# Altium footprint library Connector_DIN.PcbLib: 94 footprints (part 3 of 6)
Each footprint in its own frame and in the unit in brackets; x right, y up, seen from the top. Pads: shape width x height; smd on the part's side, far side on the other; paste and mask are expansions set on the pad; w line width, h text height; cw(c..) or ccw(c..) is an arc to the next point about the centre after c.
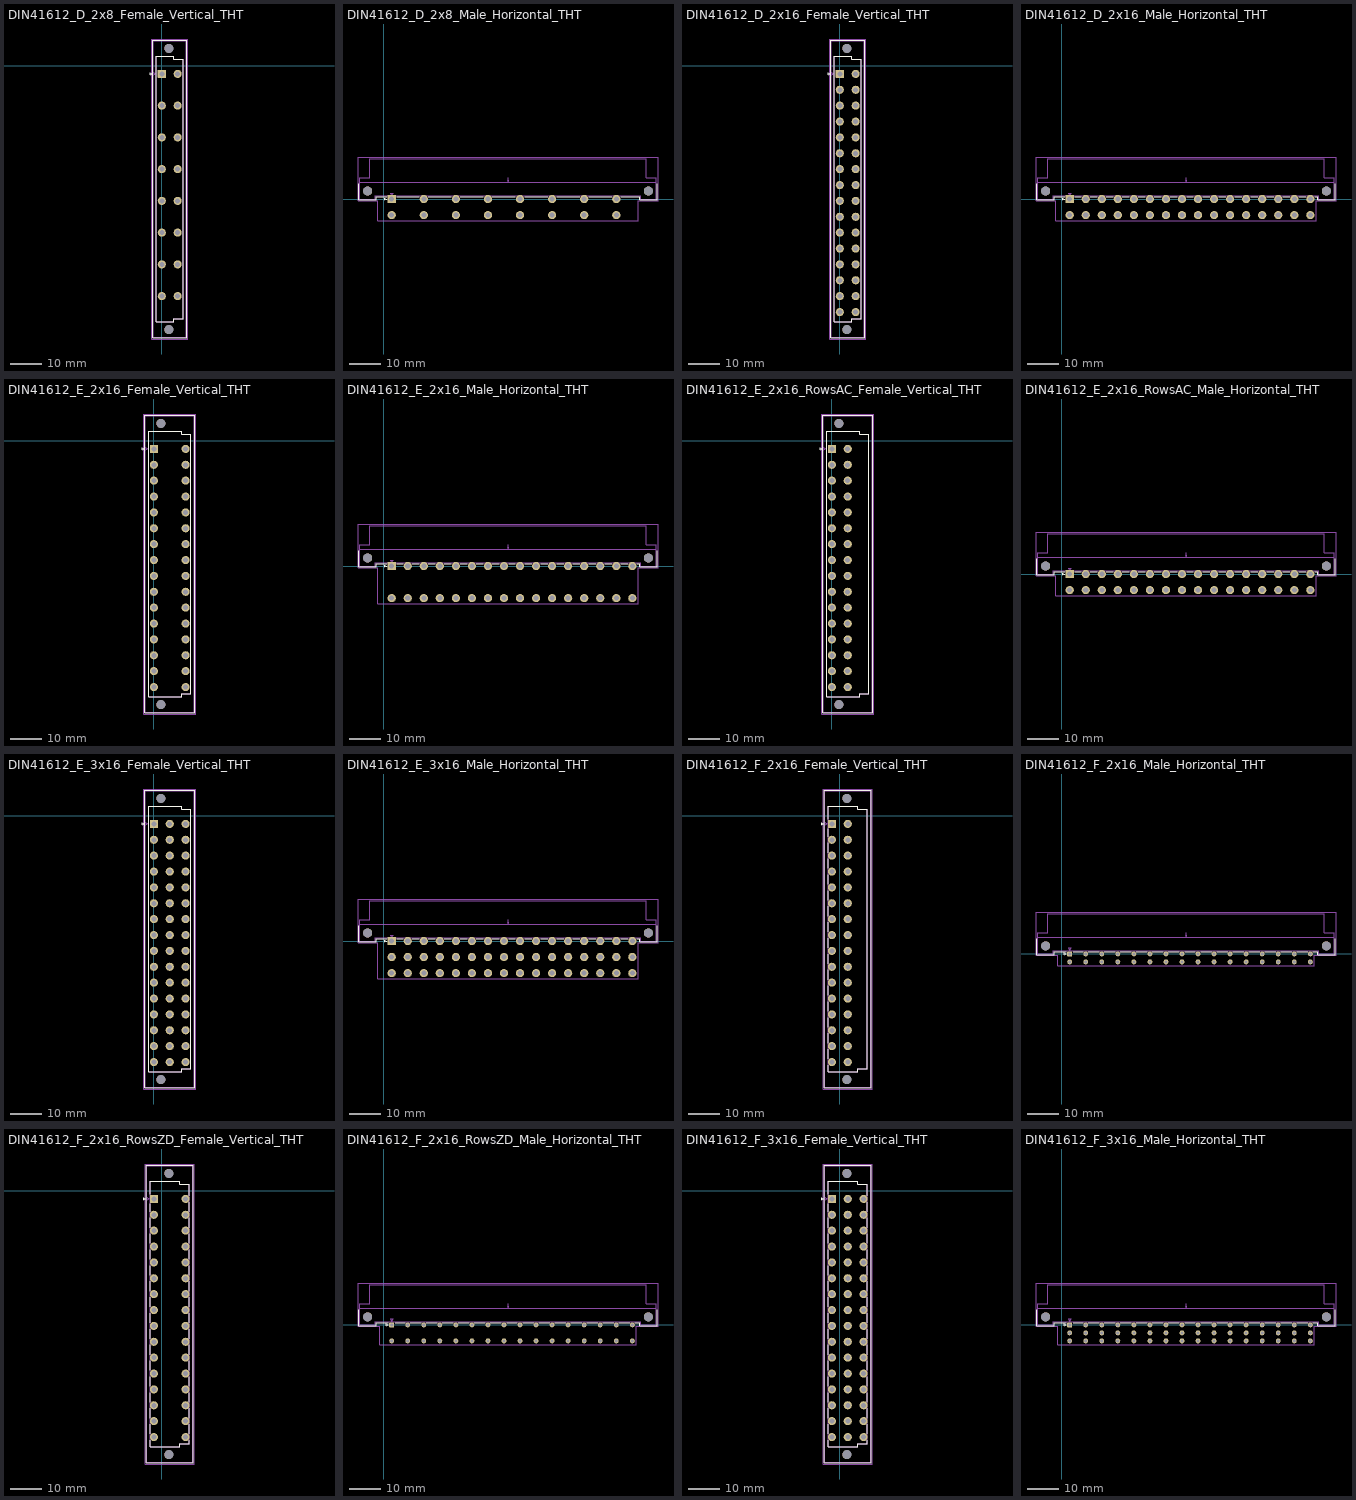
[diagram p2: the footprints below, top view; thin cyan lines are the x and y axes]

## DIN41612_D_2x8_Female_Vertical_THT [mm]
pads (18):
  rrect10% 2.6x2.6 hole 1.6: a2(0,-2.54)
  round 2.6 hole 1.6: a6(0,-12.7) a10(0,-22.86) a14(0,-33.02) a18(0,-43.18) a22(0,-53.34) a26(0,-63.5) a30(0,-73.66) c2(5.08,-2.54) c6(5.08,-12.7) c10(5.08,-22.86) c14(5.08,-33.02) c18(5.08,-43.18) c22(5.08,-53.34) c26(5.08,-63.5) c30(5.08,-73.66)
  round 2.85 hole 2.85: Un1(2.24,5.63) Un2(2.24,-84.37)
F.SilkS:
  lines w0.254: -3.74,-2.84 -3.74,-2.24 -3.06,-2.54 -3.74,-2.84 ; -2.87,-86.98 -2.87,8.24 7.95,8.24 7.95,-86.98 -2.87,-86.98 ; -1.71,-81.87 -1.71,3.13 3.79,3.13 3.79,2.13 6.79,2.13 6.79,-80.87 3.79,-80.87 3.79,-81.87 -1.71,-81.87
Top Assembly:
  lines w0.254: -2.76,-3.04 -2.06,-2.54 -2.76,-2.04 ; -2.76,-86.87 -2.76,8.13 7.84,8.13 7.84,-86.87 -2.76,-86.87 ; -1.71,-81.87 -1.71,3.13 3.79,3.13 3.79,2.13 6.79,2.13 6.79,-80.87 3.79,-80.87 3.79,-81.87 -1.71,-81.87
  text "'.Designator'" at -1.507,-40.21 h1
Top Courtyard:
  lines w0.254: -3.26,-87.37 -3.26,8.63 8.34,8.63 8.34,-87.37 -3.26,-87.37
Top Designator:
  text ".Designator" at -5.318,-39.878 h1.52

## DIN41612_D_2x8_Male_Horizontal_THT [mm]
pads (18):
  rrect10% 2.6x2.6 hole 1.6: a2(2.54,0)
  round 2.6 hole 1.6: a6(12.7,0) a10(22.86,0) a14(33.02,0) a18(43.18,0) a22(53.34,0) a26(63.5,0) a30(73.66,0) c2(2.54,-5.08) c6(12.7,-5.08) c10(22.86,-5.08) c14(33.02,-5.08) c18(43.18,-5.08) c22(53.34,-5.08) c26(63.5,-5.08) c30(73.66,-5.08)
  round 2.85 hole 2.85: Un1(-5.08,2.54) Un2(83.82,2.54)
F.SilkS:
  lines w0.254: -7.89,4.8 -7.89,-0.26 -2.37,-0.26 -2.37,0.74 0.92,0.74 ; 4.16,0.74 11.259,0.74 ; 14.141,0.74 21.419,0.74 ; 24.301,0.74 31.579,0.74 ; 34.461,0.74 41.739,0.74 ; 44.621,0.74 51.899,0.74 ; 54.781,0.74 62.059,0.74 ; 64.941,0.74 72.219,0.74 ; 75.101,0.74 81.11,0.74 81.11,-0.26 86.63,-0.26 86.63,4.8 ; 0.32,-0.3 0.92,0 0.32,0.3 0.32,-0.3
Top Assembly:
  lines w0.254: -7.63,0 -2.63,0 -2.63,1 81.37,1 81.37,0 86.37,0 86.37,6.74 83.12,6.74 83.12,12.74 -4.38,12.74 -4.38,6.74 -7.63,6.74 -7.63,0 ; 2.04,1.9 2.54,1.2 3.04,1.9 2.04,1.9
  text "'.Designator'" at 35.323,1.7 h1
Top Courtyard:
  lines w0.254: -8.13,-0.5 -1.8,-0.5 -1.8,-6.88 80.54,-6.88 80.54,-0.5 86.87,-0.5 86.87,13.23 -8.13,13.23 -8.13,-0.5
Top Designator:
  text ".Designator" at 31.752,2.667 h1.52
Dwgs.User:
  lines w0.254: -7.63,5.3 86.37,5.3
Cmts.User:
  lines w0.254: 39.17,5.9 39.37,5.4 ; 39.37,6.7 39.37,5.4 ; 39.57,5.9 39.37,5.4
  text "Board edge" at 36.577,6.733 h0.7

## DIN41612_D_2x16_Female_Vertical_THT [mm]
pads (34):
  rrect10% 2.6x2.6 hole 1.6: a2(0,-2.54)
  round 2.6 hole 1.6: a4(0,-7.62) a6(0,-12.7) a8(0,-17.78) a10(0,-22.86) a12(0,-27.94) a14(0,-33.02) a16(0,-38.1) a18(0,-43.18) a20(0,-48.26) a22(0,-53.34) a24(0,-58.42) a26(0,-63.5) a28(0,-68.58) a30(0,-73.66) a32(0,-78.74) c2(5.08,-2.54) c4(5.08,-7.62) c6(5.08,-12.7) c8(5.08,-17.78) c10(5.08,-22.86) c12(5.08,-27.94) c14(5.08,-33.02) c16(5.08,-38.1) c18(5.08,-43.18) c20(5.08,-48.26) c22(5.08,-53.34) c24(5.08,-58.42) c26(5.08,-63.5) c28(5.08,-68.58) c30(5.08,-73.66) c32(5.08,-78.74)
  round 2.85 hole 2.85: Un1(2.24,5.63) Un2(2.24,-84.37)
F.SilkS:
  lines w0.254: -3.74,-2.84 -3.06,-2.54 -3.74,-2.24 -3.74,-2.84 ; -2.87,-86.98 7.95,-86.98 7.95,8.24 -2.87,8.24 -2.87,-86.98 ; -1.71,-81.87 3.79,-81.87 3.79,-80.87 6.79,-80.87 6.79,2.13 3.79,2.13 3.79,3.13 -1.71,3.13 -1.71,-81.87
Top Assembly:
  lines w0.254: -2.76,-3.04 -2.06,-2.54 -2.76,-2.04 ; -2.76,-86.87 7.84,-86.87 7.84,8.13 -2.76,8.13 -2.76,-86.87 ; -1.71,-81.87 3.79,-81.87 3.79,-80.87 6.79,-80.87 6.79,2.13 3.79,2.13 3.79,3.13 -1.71,3.13 -1.71,-81.87
  text "'.Designator'" at -1.507,-40.21 h1
Top Courtyard:
  lines w0.254: -3.26,-87.37 8.34,-87.37 8.34,8.63 -3.26,8.63 -3.26,-87.37
Top Designator:
  text ".Designator" at -5.318,-39.878 h1.52

## DIN41612_D_2x16_Male_Horizontal_THT [mm]
pads (34):
  rrect10% 2.6x2.6 hole 1.6: a2(2.54,0)
  round 2.6 hole 1.6: a4(7.62,0) a6(12.7,0) a8(17.78,0) a10(22.86,0) a12(27.94,0) a14(33.02,0) a16(38.1,0) a18(43.18,0) a20(48.26,0) a22(53.34,0) a24(58.42,0) a26(63.5,0) a28(68.58,0) a30(73.66,0) a32(78.74,0) c2(2.54,-5.08) c4(7.62,-5.08) c6(12.7,-5.08) c8(17.78,-5.08) c10(22.86,-5.08) c12(27.94,-5.08) c14(33.02,-5.08) c16(38.1,-5.08) c18(43.18,-5.08) c20(48.26,-5.08) c22(53.34,-5.08) c24(58.42,-5.08) c26(63.5,-5.08) c28(68.58,-5.08) c30(73.66,-5.08) c32(78.74,-5.08)
  round 2.85 hole 2.85: Un1(-5.08,2.54) Un2(83.82,2.54)
F.SilkS:
  lines w0.254: -7.89,4.8 -7.89,-0.26 -2.37,-0.26 -2.37,0.74 0.92,0.74 ; 4.16,0.74 6.179,0.74 ; 9.061,0.74 11.259,0.74 ; 14.141,0.74 16.339,0.74 ; 19.221,0.74 21.419,0.74 ; 24.301,0.74 26.499,0.74 ; 29.381,0.74 31.579,0.74 ; 34.461,0.74 36.659,0.74 ; 39.541,0.74 41.739,0.74 ; 44.621,0.74 46.819,0.74 ; 49.701,0.74 51.899,0.74 ; 54.781,0.74 56.979,0.74 ; 59.861,0.74 62.059,0.74 ; 64.941,0.74 67.139,0.74 ; 70.021,0.74 72.219,0.74 ; 75.101,0.74 77.299,0.74 ; 80.181,0.74 81.11,0.74 81.11,-0.26 86.63,-0.26 86.63,4.8 ; 0.32,-0.3 0.92,0 0.32,0.3 0.32,-0.3
Top Assembly:
  lines w0.254: -7.63,0 -2.63,0 -2.63,1 81.37,1 81.37,0 86.37,0 86.37,6.74 83.12,6.74 83.12,12.74 -4.38,12.74 -4.38,6.74 -7.63,6.74 -7.63,0 ; 2.04,1.9 2.54,1.2 3.04,1.9 2.04,1.9
  text "'.Designator'" at 35.323,1.7 h1
Top Courtyard:
  lines w0.254: -8.13,-0.5 -1.8,-0.5 -1.8,-6.88 80.54,-6.88 80.54,-0.5 86.87,-0.5 86.87,13.23 -8.13,13.23 -8.13,-0.5
Top Designator:
  text ".Designator" at 31.752,2.667 h1.52
Dwgs.User:
  lines w0.254: -7.63,5.3 86.37,5.3
Cmts.User:
  lines w0.254: 39.17,5.9 39.37,5.4 ; 39.37,6.7 39.37,5.4 ; 39.57,5.9 39.37,5.4
  text "Board edge" at 36.577,6.733 h0.7

## DIN41612_E_2x16_Female_Vertical_THT [mm]
pads (34):
  rrect10% 2.6x2.6 hole 1.6: a2(0,-2.54)
  round 2.6 hole 1.6: a4(0,-7.62) a6(0,-12.7) a8(0,-17.78) a10(0,-22.86) a12(0,-27.94) a14(0,-33.02) a16(0,-38.1) a18(0,-43.18) a20(0,-48.26) a22(0,-53.34) a24(0,-58.42) a26(0,-63.5) a28(0,-68.58) a30(0,-73.66) a32(0,-78.74) e2(10.16,-2.54) e4(10.16,-7.62) e6(10.16,-12.7) e8(10.16,-17.78) e10(10.16,-22.86) e12(10.16,-27.94) e14(10.16,-33.02) e16(10.16,-38.1) e18(10.16,-43.18) e20(10.16,-48.26) e22(10.16,-53.34) e24(10.16,-58.42) e26(10.16,-63.5) e28(10.16,-68.58) e30(10.16,-73.66) e32(10.16,-78.74)
  round 2.85 hole 2.85: Un1(2.24,5.63) Un2(2.24,-84.37)
F.SilkS:
  lines w0.254: -3.75,-2.84 -3.07,-2.54 -3.75,-2.24 -3.75,-2.84 ; -2.88,-86.98 13.04,-86.98 13.04,8.24 -2.88,8.24 -2.88,-86.98 ; -1.72,-81.87 8.88,-81.87 8.88,-80.87 11.88,-80.87 11.88,2.13 8.88,2.13 8.88,3.13 -1.72,3.13 -1.72,-81.87
Top Assembly:
  lines w0.254: -2.77,-3.04 -2.07,-2.54 -2.77,-2.04 ; -2.77,-86.87 12.93,-86.87 12.93,8.13 -2.77,8.13 -2.77,-86.87 ; -1.72,-81.87 8.88,-81.87 8.88,-80.87 11.88,-80.87 11.88,2.13 8.88,2.13 8.88,3.13 -1.72,3.13 -1.72,-81.87
  text "'.Designator'" at 1.033,-40.21 h1
Top Courtyard:
  lines w0.254: -3.26,-87.37 13.43,-87.37 13.43,8.63 -3.26,8.63 -3.26,-87.37
Top Designator:
  text ".Designator" at -2.778,-39.878 h1.52

## DIN41612_E_2x16_Male_Horizontal_THT [mm]
pads (34):
  rrect10% 2.6x2.6 hole 1.6: a2(2.54,0)
  round 2.6 hole 1.6: a4(7.62,0) a6(12.7,0) a8(17.78,0) a10(22.86,0) a12(27.94,0) a14(33.02,0) a16(38.1,0) a18(43.18,0) a20(48.26,0) a22(53.34,0) a24(58.42,0) a26(63.5,0) a28(68.58,0) a30(73.66,0) a32(78.74,0) e2(2.54,-10.16) e4(7.62,-10.16) e6(12.7,-10.16) e8(17.78,-10.16) e10(22.86,-10.16) e12(27.94,-10.16) e14(33.02,-10.16) e16(38.1,-10.16) e18(43.18,-10.16) e20(48.26,-10.16) e22(53.34,-10.16) e24(58.42,-10.16) e26(63.5,-10.16) e28(68.58,-10.16) e30(73.66,-10.16) e32(78.74,-10.16)
  round 2.85 hole 2.85: Un1(-5.08,2.54) Un2(83.82,2.54)
F.SilkS:
  lines w0.254: -7.89,4.8 -7.89,-0.26 -2.37,-0.26 -2.37,0.74 0.92,0.74 ; 4.16,0.74 6.179,0.74 ; 9.061,0.74 11.259,0.74 ; 14.141,0.74 16.339,0.74 ; 19.221,0.74 21.419,0.74 ; 24.301,0.74 26.499,0.74 ; 29.381,0.74 31.579,0.74 ; 34.461,0.74 36.659,0.74 ; 39.541,0.74 41.739,0.74 ; 44.621,0.74 46.819,0.74 ; 49.701,0.74 51.899,0.74 ; 54.781,0.74 56.979,0.74 ; 59.861,0.74 62.059,0.74 ; 64.941,0.74 67.139,0.74 ; 70.021,0.74 72.219,0.74 ; 75.101,0.74 77.299,0.74 ; 80.181,0.74 81.11,0.74 81.11,-0.26 86.63,-0.26 86.63,4.8 ; 0.32,-0.3 0.92,0 0.32,0.3 0.32,-0.3
Top Assembly:
  lines w0.254: -7.63,0 -2.63,0 -2.63,1 81.37,1 81.37,0 86.37,0 86.37,6.74 83.12,6.74 83.12,12.74 -4.38,12.74 -4.38,6.74 -7.63,6.74 -7.63,0 ; 2.04,1.9 2.54,1.2 3.04,1.9 2.04,1.9
  text "'.Designator'" at 35.323,1.7 h1
Top Courtyard:
  lines w0.254: -8.13,-0.5 -1.8,-0.5 -1.8,-11.96 80.54,-11.96 80.54,-0.5 86.87,-0.5 86.87,13.23 -8.13,13.23 -8.13,-0.5
Top Designator:
  text ".Designator" at 31.752,0.127 h1.52
Dwgs.User:
  lines w0.254: -7.63,5.3 86.37,5.3
Cmts.User:
  lines w0.254: 39.17,5.9 39.37,5.4 ; 39.37,6.7 39.37,5.4 ; 39.57,5.9 39.37,5.4
  text "Board edge" at 36.577,6.733 h0.7

## DIN41612_E_2x16_RowsAC_Female_Vertical_THT [mm]
pads (34):
  rrect10% 2.6x2.6 hole 1.6: a2(0,-2.54)
  round 2.6 hole 1.6: a4(0,-7.62) a6(0,-12.7) a8(0,-17.78) a10(0,-22.86) a12(0,-27.94) a14(0,-33.02) a16(0,-38.1) a18(0,-43.18) a20(0,-48.26) a22(0,-53.34) a24(0,-58.42) a26(0,-63.5) a28(0,-68.58) a30(0,-73.66) a32(0,-78.74) c2(5.08,-2.54) c4(5.08,-7.62) c6(5.08,-12.7) c8(5.08,-17.78) c10(5.08,-22.86) c12(5.08,-27.94) c14(5.08,-33.02) c16(5.08,-38.1) c18(5.08,-43.18) c20(5.08,-48.26) c22(5.08,-53.34) c24(5.08,-58.42) c26(5.08,-63.5) c28(5.08,-68.58) c30(5.08,-73.66) c32(5.08,-78.74)
  round 2.85 hole 2.85: Un1(2.24,5.63) Un2(2.24,-84.37)
F.SilkS:
  lines w0.254: -3.75,-2.84 -3.07,-2.54 -3.75,-2.24 -3.75,-2.84 ; -2.88,-86.98 13.04,-86.98 13.04,8.24 -2.88,8.24 -2.88,-86.98 ; -1.72,-81.87 8.88,-81.87 8.88,-80.87 11.88,-80.87 11.88,2.13 8.88,2.13 8.88,3.13 -1.72,3.13 -1.72,-81.87
Top Assembly:
  lines w0.254: -2.77,-3.04 -2.07,-2.54 -2.77,-2.04 ; -2.77,-86.87 12.93,-86.87 12.93,8.13 -2.77,8.13 -2.77,-86.87 ; -1.72,-81.87 8.88,-81.87 8.88,-80.87 11.88,-80.87 11.88,2.13 8.88,2.13 8.88,3.13 -1.72,3.13 -1.72,-81.87
  text "'.Designator'" at 1.033,-40.21 h1
Top Courtyard:
  lines w0.254: -3.26,-87.37 13.43,-87.37 13.43,8.63 -3.26,8.63 -3.26,-87.37
Top Designator:
  text ".Designator" at -2.778,-39.878 h1.52

## DIN41612_E_2x16_RowsAC_Male_Horizontal_THT [mm]
pads (34):
  rrect10% 2.6x2.6 hole 1.6: a2(2.54,0)
  round 2.6 hole 1.6: a4(7.62,0) a6(12.7,0) a8(17.78,0) a10(22.86,0) a12(27.94,0) a14(33.02,0) a16(38.1,0) a18(43.18,0) a20(48.26,0) a22(53.34,0) a24(58.42,0) a26(63.5,0) a28(68.58,0) a30(73.66,0) a32(78.74,0) c2(2.54,-5.08) c4(7.62,-5.08) c6(12.7,-5.08) c8(17.78,-5.08) c10(22.86,-5.08) c12(27.94,-5.08) c14(33.02,-5.08) c16(38.1,-5.08) c18(43.18,-5.08) c20(48.26,-5.08) c22(53.34,-5.08) c24(58.42,-5.08) c26(63.5,-5.08) c28(68.58,-5.08) c30(73.66,-5.08) c32(78.74,-5.08)
  round 2.85 hole 2.85: Un1(-5.08,2.54) Un2(83.82,2.54)
F.SilkS:
  lines w0.254: -7.89,4.8 -7.89,-0.26 -2.37,-0.26 -2.37,0.74 0.92,0.74 ; 4.16,0.74 6.179,0.74 ; 9.061,0.74 11.259,0.74 ; 14.141,0.74 16.339,0.74 ; 19.221,0.74 21.419,0.74 ; 24.301,0.74 26.499,0.74 ; 29.381,0.74 31.579,0.74 ; 34.461,0.74 36.659,0.74 ; 39.541,0.74 41.739,0.74 ; 44.621,0.74 46.819,0.74 ; 49.701,0.74 51.899,0.74 ; 54.781,0.74 56.979,0.74 ; 59.861,0.74 62.059,0.74 ; 64.941,0.74 67.139,0.74 ; 70.021,0.74 72.219,0.74 ; 75.101,0.74 77.299,0.74 ; 80.181,0.74 81.11,0.74 81.11,-0.26 86.63,-0.26 86.63,4.8 ; 0.32,-0.3 0.92,0 0.32,0.3 0.32,-0.3
Top Assembly:
  lines w0.254: -7.63,0 -2.63,0 -2.63,1 81.37,1 81.37,0 86.37,0 86.37,6.74 83.12,6.74 83.12,12.74 -4.38,12.74 -4.38,6.74 -7.63,6.74 -7.63,0 ; 2.04,1.9 2.54,1.2 3.04,1.9 2.04,1.9
  text "'.Designator'" at 35.323,1.7 h1
Top Courtyard:
  lines w0.254: -8.13,-0.5 -1.8,-0.5 -1.8,-6.88 80.54,-6.88 80.54,-0.5 86.87,-0.5 86.87,13.23 -8.13,13.23 -8.13,-0.5
Top Designator:
  text ".Designator" at 31.752,2.667 h1.52
Dwgs.User:
  lines w0.254: -7.63,5.3 86.37,5.3
Cmts.User:
  lines w0.254: 39.17,5.9 39.37,5.4 ; 39.37,6.7 39.37,5.4 ; 39.57,5.9 39.37,5.4
  text "Board edge" at 36.577,6.733 h0.7

## DIN41612_E_3x16_Female_Vertical_THT [mm]
pads (50):
  rrect10% 2.6x2.6 hole 1.6: a2(0,-2.54)
  round 2.6 hole 1.6: a4(0,-7.62) a6(0,-12.7) a8(0,-17.78) a10(0,-22.86) a12(0,-27.94) a14(0,-33.02) a16(0,-38.1) a18(0,-43.18) a20(0,-48.26) a22(0,-53.34) a24(0,-58.42) a26(0,-63.5) a28(0,-68.58) a30(0,-73.66) a32(0,-78.74) c2(5.08,-2.54) c4(5.08,-7.62) c6(5.08,-12.7) c8(5.08,-17.78) c10(5.08,-22.86) c12(5.08,-27.94) c14(5.08,-33.02) c16(5.08,-38.1) c18(5.08,-43.18) c20(5.08,-48.26) c22(5.08,-53.34) c24(5.08,-58.42) c26(5.08,-63.5) c28(5.08,-68.58) c30(5.08,-73.66) c32(5.08,-78.74) e2(10.16,-2.54) e4(10.16,-7.62) e6(10.16,-12.7) e8(10.16,-17.78) e10(10.16,-22.86) e12(10.16,-27.94) e14(10.16,-33.02) e16(10.16,-38.1) e18(10.16,-43.18) e20(10.16,-48.26) e22(10.16,-53.34) e24(10.16,-58.42) e26(10.16,-63.5) e28(10.16,-68.58) e30(10.16,-73.66) e32(10.16,-78.74)
  round 2.85 hole 2.85: Un1(2.24,5.63) Un2(2.24,-84.37)
F.SilkS:
  lines w0.254: -3.75,-2.84 -3.07,-2.54 -3.75,-2.24 -3.75,-2.84 ; -2.88,-86.98 13.04,-86.98 13.04,8.24 -2.88,8.24 -2.88,-86.98 ; -1.72,-81.87 8.88,-81.87 8.88,-80.87 11.88,-80.87 11.88,2.13 8.88,2.13 8.88,3.13 -1.72,3.13 -1.72,-81.87
Top Assembly:
  lines w0.254: -2.77,-3.04 -2.07,-2.54 -2.77,-2.04 ; -2.77,-86.87 12.93,-86.87 12.93,8.13 -2.77,8.13 -2.77,-86.87 ; -1.72,-81.87 8.88,-81.87 8.88,-80.87 11.88,-80.87 11.88,2.13 8.88,2.13 8.88,3.13 -1.72,3.13 -1.72,-81.87
  text "'.Designator'" at 1.033,-40.21 h1
Top Courtyard:
  lines w0.254: -3.26,-87.37 13.43,-87.37 13.43,8.63 -3.26,8.63 -3.26,-87.37
Top Designator:
  text ".Designator" at -2.778,-39.878 h1.52

## DIN41612_E_3x16_Male_Horizontal_THT [mm]
pads (50):
  rrect10% 2.6x2.6 hole 1.6: a2(2.54,0)
  round 2.6 hole 1.6: a4(7.62,0) a6(12.7,0) a8(17.78,0) a10(22.86,0) a12(27.94,0) a14(33.02,0) a16(38.1,0) a18(43.18,0) a20(48.26,0) a22(53.34,0) a24(58.42,0) a26(63.5,0) a28(68.58,0) a30(73.66,0) a32(78.74,0) c2(2.54,-5.08) c4(7.62,-5.08) c6(12.7,-5.08) c8(17.78,-5.08) c10(22.86,-5.08) c12(27.94,-5.08) c14(33.02,-5.08) c16(38.1,-5.08) c18(43.18,-5.08) c20(48.26,-5.08) c22(53.34,-5.08) c24(58.42,-5.08) c26(63.5,-5.08) c28(68.58,-5.08) c30(73.66,-5.08) c32(78.74,-5.08) e2(2.54,-10.16) e4(7.62,-10.16) e6(12.7,-10.16) e8(17.78,-10.16) e10(22.86,-10.16) e12(27.94,-10.16) e14(33.02,-10.16) e16(38.1,-10.16) e18(43.18,-10.16) e20(48.26,-10.16) e22(53.34,-10.16) e24(58.42,-10.16) e26(63.5,-10.16) e28(68.58,-10.16) e30(73.66,-10.16) e32(78.74,-10.16)
  round 2.85 hole 2.85: Un1(-5.08,2.54) Un2(83.82,2.54)
F.SilkS:
  lines w0.254: -7.89,4.8 -7.89,-0.26 -2.37,-0.26 -2.37,0.74 0.92,0.74 ; 4.16,0.74 6.179,0.74 ; 9.061,0.74 11.259,0.74 ; 14.141,0.74 16.339,0.74 ; 19.221,0.74 21.419,0.74 ; 24.301,0.74 26.499,0.74 ; 29.381,0.74 31.579,0.74 ; 34.461,0.74 36.659,0.74 ; 39.541,0.74 41.739,0.74 ; 44.621,0.74 46.819,0.74 ; 49.701,0.74 51.899,0.74 ; 54.781,0.74 56.979,0.74 ; 59.861,0.74 62.059,0.74 ; 64.941,0.74 67.139,0.74 ; 70.021,0.74 72.219,0.74 ; 75.101,0.74 77.299,0.74 ; 80.181,0.74 81.11,0.74 81.11,-0.26 86.63,-0.26 86.63,4.8 ; 0.32,-0.3 0.92,0 0.32,0.3 0.32,-0.3
Top Assembly:
  lines w0.254: -7.63,0 -2.63,0 -2.63,1 81.37,1 81.37,0 86.37,0 86.37,6.74 83.12,6.74 83.12,12.74 -4.38,12.74 -4.38,6.74 -7.63,6.74 -7.63,0 ; 2.04,1.9 2.54,1.2 3.04,1.9 2.04,1.9
  text "'.Designator'" at 35.323,1.7 h1
Top Courtyard:
  lines w0.254: -8.13,-0.5 -1.8,-0.5 -1.8,-11.96 80.54,-11.96 80.54,-0.5 86.87,-0.5 86.87,13.23 -8.13,13.23 -8.13,-0.5
Top Designator:
  text ".Designator" at 31.752,0.127 h1.52
Dwgs.User:
  lines w0.254: -7.63,5.3 86.37,5.3
Cmts.User:
  lines w0.254: 39.17,5.9 39.37,5.4 ; 39.37,6.7 39.37,5.4 ; 39.57,5.9 39.37,5.4
  text "Board edge" at 36.577,6.733 h0.7

## DIN41612_F_2x16_Female_Vertical_THT [mm]
pads (34):
  round 2.6 hole 1.6: b2(2.54,-2.54) b4(2.54,-7.62) b6(2.54,-12.7) b8(2.54,-17.78) b10(2.54,-22.86) b12(2.54,-27.94) b14(2.54,-33.02) b16(2.54,-38.1) b18(2.54,-43.18) b20(2.54,-48.26) b22(2.54,-53.34) b24(2.54,-58.42) b26(2.54,-63.5) b28(2.54,-68.58) b30(2.54,-73.66) b32(2.54,-78.74) z4(-2.54,-7.62) z6(-2.54,-12.7) z8(-2.54,-17.78) z10(-2.54,-22.86) z12(-2.54,-27.94) z14(-2.54,-33.02) z16(-2.54,-38.1) z18(-2.54,-43.18) z20(-2.54,-48.26) z22(-2.54,-53.34) z24(-2.54,-58.42) z26(-2.54,-63.5) z28(-2.54,-68.58) z30(-2.54,-73.66) z32(-2.54,-78.74)
  round 2.85 hole 2.85: Un1(2.24,5.63) Un2(2.24,-84.37)
  rrect10% 2.6x2.6 hole 1.6: z2(-2.54,-2.54)
F.SilkS:
  lines w0.254: -3.66,-79.738 -3.66,-81.87 5.74,-81.87 5.74,-80.87 8.74,-80.87 8.74,2.13 5.74,2.13 5.74,3.13 -3.66,3.13 -3.66,-1.04 ; -3.66,-77.742 -3.66,-74.658 ; -3.66,-72.662 -3.66,-69.578 ; -3.66,-67.582 -3.66,-64.498 ; -3.66,-62.502 -3.66,-59.418 ; -3.66,-57.422 -3.66,-54.338 ; -3.66,-52.342 -3.66,-49.258 ; -3.66,-47.262 -3.66,-44.178 ; -3.66,-42.182 -3.66,-39.098 ; -3.66,-37.102 -3.66,-34.018 ; -3.66,-32.022 -3.66,-28.938 ; -3.66,-26.942 -3.66,-23.858 ; -3.66,-21.862 -3.66,-18.778 ; -3.66,-16.782 -3.66,-13.698 ; -3.66,-11.702 -3.66,-8.618 ; -3.66,-6.622 -3.66,-4.04 ; -5.84,-2.84 -5.16,-2.54 -5.84,-2.24 -5.84,-2.84 ; -4.97,-86.98 10.05,-86.98 10.05,8.24 -4.97,8.24 -4.97,-86.98
Top Assembly:
  lines w0.254: -4.86,-3.04 -4.16,-2.54 -4.86,-2.04 ; -4.86,-86.87 9.94,-86.87 9.94,8.13 -4.86,8.13 -4.86,-86.87 ; -3.66,-81.87 5.74,-81.87 5.74,-80.87 8.74,-80.87 8.74,2.13 5.74,2.13 5.74,3.13 -3.66,3.13 -3.66,-81.87
  text "'.Designator'" at -1.507,-40.21 h1
Top Courtyard:
  lines w0.254: -5.36,-87.37 10.44,-87.37 10.44,8.63 -5.36,8.63 -5.36,-87.37
Top Designator:
  text ".Designator" at -5.318,-39.878 h1.52

## DIN41612_F_2x16_Male_Horizontal_THT [mm]
pads (34):
  round 1.55 hole 1: b2(2.54,-2.54) b4(7.62,-2.54) b6(12.7,-2.54) b8(17.78,-2.54) b10(22.86,-2.54) b12(27.94,-2.54) b14(33.02,-2.54) b16(38.1,-2.54) b18(43.18,-2.54) b20(48.26,-2.54) b22(53.34,-2.54) b24(58.42,-2.54) b26(63.5,-2.54) b28(68.58,-2.54) b30(73.66,-2.54) b32(78.74,-2.54) z4(7.62,0) z6(12.7,0) z8(17.78,0) z10(22.86,0) z12(27.94,0) z14(33.02,0) z16(38.1,0) z18(43.18,0) z20(48.26,0) z22(53.34,0) z24(58.42,0) z26(63.5,0) z28(68.58,0) z30(73.66,0) z32(78.74,0)
  round 2.85 hole 2.85: Un1(-5.08,2.54) Un2(83.82,2.54)
  rrect16% 1.55x1.55 hole 1: z2(2.54,0)
F.SilkS:
  lines w0.254: -7.89,4.8 -7.89,-0.26 -2.37,-0.26 -2.37,0.74 1.445,0.74 ; 3.635,0.74 6.813,0.74 ; 8.427,0.74 11.893,0.74 ; 13.507,0.74 16.973,0.74 ; 18.587,0.74 22.053,0.74 ; 23.667,0.74 27.133,0.74 ; 28.747,0.74 32.213,0.74 ; 33.827,0.74 37.293,0.74 ; 38.907,0.74 42.373,0.74 ; 43.987,0.74 47.453,0.74 ; 49.067,0.74 52.533,0.74 ; 54.147,0.74 57.613,0.74 ; 59.227,0.74 62.693,0.74 ; 64.307,0.74 67.773,0.74 ; 69.387,0.74 72.853,0.74 ; 74.467,0.74 77.933,0.74 ; 79.547,0.74 81.11,0.74 81.11,-0.26 86.63,-0.26 86.63,4.8 ; 0.845,-0.3 1.445,0 0.845,0.3 0.845,-0.3
Top Assembly:
  lines w0.254: -7.63,0 -2.63,0 -2.63,1 81.37,1 81.37,0 86.37,0 86.37,6.74 83.12,6.74 83.12,12.74 -4.38,12.74 -4.38,6.74 -7.63,6.74 -7.63,0 ; 2.04,1.9 2.54,1.2 3.04,1.9 2.04,1.9
  text "'.Designator'" at 35.323,1.7 h1
Top Courtyard:
  lines w0.254: -8.13,-0.5 -1.27,-0.5 -1.27,-3.82 80.02,-3.82 80.02,-0.5 86.87,-0.5 86.87,13.23 -8.13,13.23 -8.13,-0.5
Top Designator:
  text ".Designator" at 31.752,4.197 h1.52
Dwgs.User:
  lines w0.254: -7.63,5.3 86.37,5.3
Cmts.User:
  lines w0.254: 39.17,5.9 39.37,5.4 ; 39.37,6.7 39.37,5.4 ; 39.57,5.9 39.37,5.4
  text "Board edge" at 36.577,6.733 h0.7

## DIN41612_F_2x16_RowsZD_Female_Vertical_THT [mm]
pads (34):
  round 2.6 hole 1.6: d2(7.62,-2.54) d4(7.62,-7.62) d6(7.62,-12.7) d8(7.62,-17.78) d10(7.62,-22.86) d12(7.62,-27.94) d14(7.62,-33.02) d16(7.62,-38.1) d18(7.62,-43.18) d20(7.62,-48.26) d22(7.62,-53.34) d24(7.62,-58.42) d26(7.62,-63.5) d28(7.62,-68.58) d30(7.62,-73.66) d32(7.62,-78.74) z4(-2.54,-7.62) z6(-2.54,-12.7) z8(-2.54,-17.78) z10(-2.54,-22.86) z12(-2.54,-27.94) z14(-2.54,-33.02) z16(-2.54,-38.1) z18(-2.54,-43.18) z20(-2.54,-48.26) z22(-2.54,-53.34) z24(-2.54,-58.42) z26(-2.54,-63.5) z28(-2.54,-68.58) z30(-2.54,-73.66) z32(-2.54,-78.74)
  round 2.85 hole 2.85: Un1(2.24,5.63) Un2(2.24,-84.37)
  rrect10% 2.6x2.6 hole 1.6: z2(-2.54,-2.54)
F.SilkS:
  lines w0.254: -3.66,-79.738 -3.66,-81.87 5.74,-81.87 5.74,-80.87 8.74,-80.87 8.74,-79.738 ; -3.66,-77.742 -3.66,-74.658 ; -3.66,-72.662 -3.66,-69.578 ; -3.66,-67.582 -3.66,-64.498 ; -3.66,-62.502 -3.66,-59.418 ; -3.66,-57.422 -3.66,-54.338 ; -3.66,-52.342 -3.66,-49.258 ; -3.66,-47.262 -3.66,-44.178 ; -3.66,-42.182 -3.66,-39.098 ; -3.66,-37.102 -3.66,-34.018 ; -3.66,-32.022 -3.66,-28.938 ; -3.66,-26.942 -3.66,-23.858 ; -3.66,-21.862 -3.66,-18.778 ; -3.66,-16.782 -3.66,-13.698 ; -3.66,-11.702 -3.66,-8.618 ; -3.66,-6.622 -3.66,-4.04 ; -3.66,-1.04 -3.66,3.13 5.74,3.13 5.74,2.13 8.74,2.13 8.74,-1.542 ; 8.74,-77.742 8.74,-74.658 ; 8.74,-72.662 8.74,-69.578 ; 8.74,-67.582 8.74,-64.498 ; 8.74,-62.502 8.74,-59.418 ; 8.74,-57.422 8.74,-54.338 ; 8.74,-52.342 8.74,-49.258 ; 8.74,-47.262 8.74,-44.178 ; 8.74,-42.182 8.74,-39.098 ; 8.74,-37.102 8.74,-34.018 ; 8.74,-32.022 8.74,-28.938 ; 8.74,-26.942 8.74,-23.858 ; 8.74,-21.862 8.74,-18.778 ; 8.74,-16.782 8.74,-13.698 ; 8.74,-11.702 8.74,-8.618 ; 8.74,-6.622 8.74,-3.538 ; -5.84,-2.84 -5.16,-2.54 -5.84,-2.24 -5.84,-2.84 ; -4.97,-86.98 10.05,-86.98 10.05,8.24 -4.97,8.24 -4.97,-86.98
Top Assembly:
  lines w0.254: -4.86,-3.04 -4.16,-2.54 -4.86,-2.04 ; -4.86,-86.87 9.94,-86.87 9.94,8.13 -4.86,8.13 -4.86,-86.87 ; -3.66,-81.87 5.74,-81.87 5.74,-80.87 8.74,-80.87 8.74,2.13 5.74,2.13 5.74,3.13 -3.66,3.13 -3.66,-81.87
  text "'.Designator'" at -1.507,-40.21 h1
Top Courtyard:
  lines w0.254: -5.36,-87.37 10.44,-87.37 10.44,8.63 -5.36,8.63 -5.36,-87.37
Top Designator:
  text ".Designator" at -5.318,-39.878 h1.52

## DIN41612_F_2x16_RowsZD_Male_Horizontal_THT [mm]
pads (34):
  round 1.55 hole 1: d2(2.54,-5.08) d4(7.62,-5.08) d6(12.7,-5.08) d8(17.78,-5.08) d10(22.86,-5.08) d12(27.94,-5.08) d14(33.02,-5.08) d16(38.1,-5.08) d18(43.18,-5.08) d20(48.26,-5.08) d22(53.34,-5.08) d24(58.42,-5.08) d26(63.5,-5.08) d28(68.58,-5.08) d30(73.66,-5.08) d32(78.74,-5.08) z4(7.62,0) z6(12.7,0) z8(17.78,0) z10(22.86,0) z12(27.94,0) z14(33.02,0) z16(38.1,0) z18(43.18,0) z20(48.26,0) z22(53.34,0) z24(58.42,0) z26(63.5,0) z28(68.58,0) z30(73.66,0) z32(78.74,0)
  round 2.85 hole 2.85: Un1(-5.08,2.54) Un2(83.82,2.54)
  rrect16% 1.55x1.55 hole 1: z2(2.54,0)
F.SilkS:
  lines w0.254: -7.89,4.8 -7.89,-0.26 -2.37,-0.26 -2.37,0.74 1.445,0.74 ; 3.635,0.74 6.813,0.74 ; 8.427,0.74 11.893,0.74 ; 13.507,0.74 16.973,0.74 ; 18.587,0.74 22.053,0.74 ; 23.667,0.74 27.133,0.74 ; 28.747,0.74 32.213,0.74 ; 33.827,0.74 37.293,0.74 ; 38.907,0.74 42.373,0.74 ; 43.987,0.74 47.453,0.74 ; 49.067,0.74 52.533,0.74 ; 54.147,0.74 57.613,0.74 ; 59.227,0.74 62.693,0.74 ; 64.307,0.74 67.773,0.74 ; 69.387,0.74 72.853,0.74 ; 74.467,0.74 77.933,0.74 ; 79.547,0.74 81.11,0.74 81.11,-0.26 86.63,-0.26 86.63,4.8 ; 0.845,-0.3 1.445,0 0.845,0.3 0.845,-0.3
Top Assembly:
  lines w0.254: -7.63,0 -2.63,0 -2.63,1 81.37,1 81.37,0 86.37,0 86.37,6.74 83.12,6.74 83.12,12.74 -4.38,12.74 -4.38,6.74 -7.63,6.74 -7.63,0 ; 2.04,1.9 2.54,1.2 3.04,1.9 2.04,1.9
  text "'.Designator'" at 35.323,1.7 h1
Top Courtyard:
  lines w0.254: -8.13,-0.5 -1.27,-0.5 -1.27,-6.36 80.02,-6.36 80.02,-0.5 86.87,-0.5 86.87,13.23 -8.13,13.23 -8.13,-0.5
Top Designator:
  text ".Designator" at 31.752,2.927 h1.52
Dwgs.User:
  lines w0.254: -7.63,5.3 86.37,5.3
Cmts.User:
  lines w0.254: 39.17,5.9 39.37,5.4 ; 39.37,6.7 39.37,5.4 ; 39.57,5.9 39.37,5.4
  text "Board edge" at 36.577,6.733 h0.7

## DIN41612_F_3x16_Female_Vertical_THT [mm]
pads (50):
  round 2.6 hole 1.6: b2(2.54,-2.54) b4(2.54,-7.62) b6(2.54,-12.7) b8(2.54,-17.78) b10(2.54,-22.86) b12(2.54,-27.94) b14(2.54,-33.02) b16(2.54,-38.1) b18(2.54,-43.18) b20(2.54,-48.26) b22(2.54,-53.34) b24(2.54,-58.42) b26(2.54,-63.5) b28(2.54,-68.58) b30(2.54,-73.66) b32(2.54,-78.74) d2(7.62,-2.54) d4(7.62,-7.62) d6(7.62,-12.7) d8(7.62,-17.78) d10(7.62,-22.86) d12(7.62,-27.94) d14(7.62,-33.02) d16(7.62,-38.1) d18(7.62,-43.18) d20(7.62,-48.26) d22(7.62,-53.34) d24(7.62,-58.42) d26(7.62,-63.5) d28(7.62,-68.58) d30(7.62,-73.66) d32(7.62,-78.74) z4(-2.54,-7.62) z6(-2.54,-12.7) z8(-2.54,-17.78) z10(-2.54,-22.86) z12(-2.54,-27.94) z14(-2.54,-33.02) z16(-2.54,-38.1) z18(-2.54,-43.18) z20(-2.54,-48.26) z22(-2.54,-53.34) z24(-2.54,-58.42) z26(-2.54,-63.5) z28(-2.54,-68.58) z30(-2.54,-73.66) z32(-2.54,-78.74)
  round 2.85 hole 2.85: Un1(2.24,5.63) Un2(2.24,-84.37)
  rrect10% 2.6x2.6 hole 1.6: z2(-2.54,-2.54)
F.SilkS:
  lines w0.254: -3.66,-79.738 -3.66,-81.87 5.74,-81.87 5.74,-80.87 8.74,-80.87 8.74,-79.738 ; -3.66,-77.742 -3.66,-74.658 ; -3.66,-72.662 -3.66,-69.578 ; -3.66,-67.582 -3.66,-64.498 ; -3.66,-62.502 -3.66,-59.418 ; -3.66,-57.422 -3.66,-54.338 ; -3.66,-52.342 -3.66,-49.258 ; -3.66,-47.262 -3.66,-44.178 ; -3.66,-42.182 -3.66,-39.098 ; -3.66,-37.102 -3.66,-34.018 ; -3.66,-32.022 -3.66,-28.938 ; -3.66,-26.942 -3.66,-23.858 ; -3.66,-21.862 -3.66,-18.778 ; -3.66,-16.782 -3.66,-13.698 ; -3.66,-11.702 -3.66,-8.618 ; -3.66,-6.622 -3.66,-4.04 ; -3.66,-1.04 -3.66,3.13 5.74,3.13 5.74,2.13 8.74,2.13 8.74,-1.542 ; 8.74,-77.742 8.74,-74.658 ; 8.74,-72.662 8.74,-69.578 ; 8.74,-67.582 8.74,-64.498 ; 8.74,-62.502 8.74,-59.418 ; 8.74,-57.422 8.74,-54.338 ; 8.74,-52.342 8.74,-49.258 ; 8.74,-47.262 8.74,-44.178 ; 8.74,-42.182 8.74,-39.098 ; 8.74,-37.102 8.74,-34.018 ; 8.74,-32.022 8.74,-28.938 ; 8.74,-26.942 8.74,-23.858 ; 8.74,-21.862 8.74,-18.778 ; 8.74,-16.782 8.74,-13.698 ; 8.74,-11.702 8.74,-8.618 ; 8.74,-6.622 8.74,-3.538 ; -5.84,-2.84 -5.16,-2.54 -5.84,-2.24 -5.84,-2.84 ; -4.97,-86.98 10.05,-86.98 10.05,8.24 -4.97,8.24 -4.97,-86.98
Top Assembly:
  lines w0.254: -4.86,-3.04 -4.16,-2.54 -4.86,-2.04 ; -4.86,-86.87 9.94,-86.87 9.94,8.13 -4.86,8.13 -4.86,-86.87 ; -3.66,-81.87 5.74,-81.87 5.74,-80.87 8.74,-80.87 8.74,2.13 5.74,2.13 5.74,3.13 -3.66,3.13 -3.66,-81.87
  text "'.Designator'" at -1.507,-40.21 h1
Top Courtyard:
  lines w0.254: -5.36,-87.37 10.44,-87.37 10.44,8.63 -5.36,8.63 -5.36,-87.37
Top Designator:
  text ".Designator" at -5.318,-39.878 h1.52

## DIN41612_F_3x16_Male_Horizontal_THT [mm]
pads (50):
  round 1.55 hole 1: b2(2.54,-2.54) b4(7.62,-2.54) b6(12.7,-2.54) b8(17.78,-2.54) b10(22.86,-2.54) b12(27.94,-2.54) b14(33.02,-2.54) b16(38.1,-2.54) b18(43.18,-2.54) b20(48.26,-2.54) b22(53.34,-2.54) b24(58.42,-2.54) b26(63.5,-2.54) b28(68.58,-2.54) b30(73.66,-2.54) b32(78.74,-2.54) d2(2.54,-5.08) d4(7.62,-5.08) d6(12.7,-5.08) d8(17.78,-5.08) d10(22.86,-5.08) d12(27.94,-5.08) d14(33.02,-5.08) d16(38.1,-5.08) d18(43.18,-5.08) d20(48.26,-5.08) d22(53.34,-5.08) d24(58.42,-5.08) d26(63.5,-5.08) d28(68.58,-5.08) d30(73.66,-5.08) d32(78.74,-5.08) z4(7.62,0) z6(12.7,0) z8(17.78,0) z10(22.86,0) z12(27.94,0) z14(33.02,0) z16(38.1,0) z18(43.18,0) z20(48.26,0) z22(53.34,0) z24(58.42,0) z26(63.5,0) z28(68.58,0) z30(73.66,0) z32(78.74,0)
  round 2.85 hole 2.85: Un1(-5.08,2.54) Un2(83.82,2.54)
  rrect16% 1.55x1.55 hole 1: z2(2.54,0)
F.SilkS:
  lines w0.254: -7.89,4.8 -7.89,-0.26 -2.37,-0.26 -2.37,0.74 1.445,0.74 ; 3.635,0.74 6.813,0.74 ; 8.427,0.74 11.893,0.74 ; 13.507,0.74 16.973,0.74 ; 18.587,0.74 22.053,0.74 ; 23.667,0.74 27.133,0.74 ; 28.747,0.74 32.213,0.74 ; 33.827,0.74 37.293,0.74 ; 38.907,0.74 42.373,0.74 ; 43.987,0.74 47.453,0.74 ; 49.067,0.74 52.533,0.74 ; 54.147,0.74 57.613,0.74 ; 59.227,0.74 62.693,0.74 ; 64.307,0.74 67.773,0.74 ; 69.387,0.74 72.853,0.74 ; 74.467,0.74 77.933,0.74 ; 79.547,0.74 81.11,0.74 81.11,-0.26 86.63,-0.26 86.63,4.8 ; 0.845,-0.3 1.445,0 0.845,0.3 0.845,-0.3
Top Assembly:
  lines w0.254: -7.63,0 -2.63,0 -2.63,1 81.37,1 81.37,0 86.37,0 86.37,6.74 83.12,6.74 83.12,12.74 -4.38,12.74 -4.38,6.74 -7.63,6.74 -7.63,0 ; 2.04,1.9 2.54,1.2 3.04,1.9 2.04,1.9
  text "'.Designator'" at 35.323,1.7 h1
Top Courtyard:
  lines w0.254: -8.13,-0.5 -1.27,-0.5 -1.27,-6.36 80.02,-6.36 80.02,-0.5 86.87,-0.5 86.87,13.23 -8.13,13.23 -8.13,-0.5
Top Designator:
  text ".Designator" at 31.752,2.927 h1.52
Dwgs.User:
  lines w0.254: -7.63,5.3 86.37,5.3
Cmts.User:
  lines w0.254: 39.17,5.9 39.37,5.4 ; 39.37,6.7 39.37,5.4 ; 39.57,5.9 39.37,5.4
  text "Board edge" at 36.577,6.733 h0.7